# Altium schematic symbol library Vishay.SchLib: 3 symbols
Pins are listed as number, name and electrical type; pins without a type are passive.

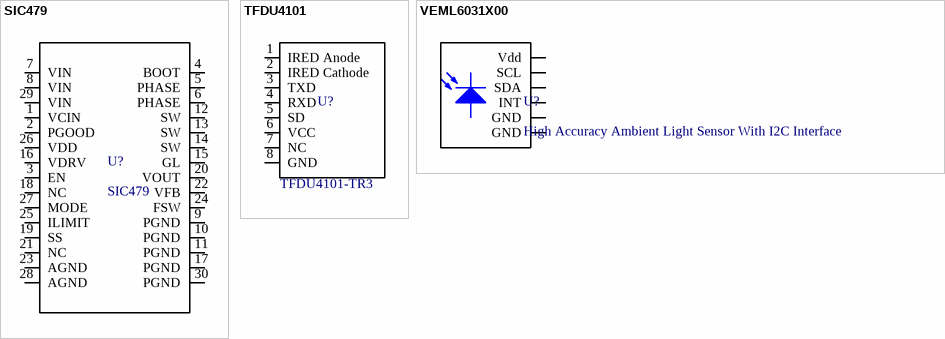
[diagram p0: symbols SIC479 to VEML6031X00]

## SIC479
designator U?
Manufacturer: Vishay; Part Number: SIC479; Price 1: 3.02; Price 100: 2.23; Price 1000: 1.62
footprint SiC479
pins: 1 VCIN, 2 PGOOD, 3 EN, 4 BOOT, 5 PHASE, 6 PHASE, 7 VIN, 8 VIN, 9 PGND, 10 PGND, 11 PGND, 12 SW, 13 SW, 14 SW, 15 GL, 16 VDRV, 17 PGND, 18 NC, 19 SS, 20 VOUT, 21 NC, 22 VFB, 23 AGND, 24 FSW, 25 ILIMIT, 26 VDD, 27 MODE, 28 AGND, 29 VIN, 30 PGND

## TFDU4101
designator U?  Part Number: TFDU4101-TR3  (hidden comment: TFDU4101)
Infrared Transceiver Module; Manufacturer: Vishay; Price 1: 3.94; Price 100: 2.83; Price 1000: 2.51
footprint TFDU4101 (Infrared Transceiver)
footprint TFDU4101-top (Infrared Transceiver)
footprint Model Name (Footprint not found)
pins: 1 IRED Anode, 2 IRED Cathode, 3 TXD, 4 RXD, 5 SD, 6 VCC, 7 NC, 8 GND

## VEML6031X00
designator U?, comment High Accuracy Ambient Light Sensor With I2C Interface
Manufacturer: Vishay; Part Number: VEML6031X00; Price 1: 2.4; Price 100: 1.33; Price 1000: 1.05
footprint VEML6031X00 (High Accuracy Ambient Light Sensor With I2C Interface)
pins: 1 GND, 2 SDA, 3 INT, 4 GND, 5 SCL, 6 Vdd